# Altium schematic symbol library Latch_Conn.SchLib: 1 symbol
Pins are listed as number, name and electrical type; pins without a type are passive.

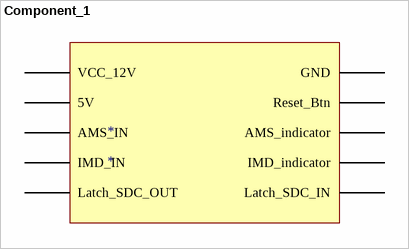
[diagram p0: symbol Component_1]

## Component_1
designator *
pins: 11 VCC_12V, 12 5V, 13 AMS_IN, 14 IMD_IN, 15 Latch_SDC_OUT, 16 GND, 17 Reset_Btn, 18 AMS_indicator, 19 IMD_indicator, 20 Latch_SDC_IN